# Altium schematic symbol library FenoliteHier.SchLib: 5 symbols
Pins are listed as number, name and electrical type; pins without a type are passive.

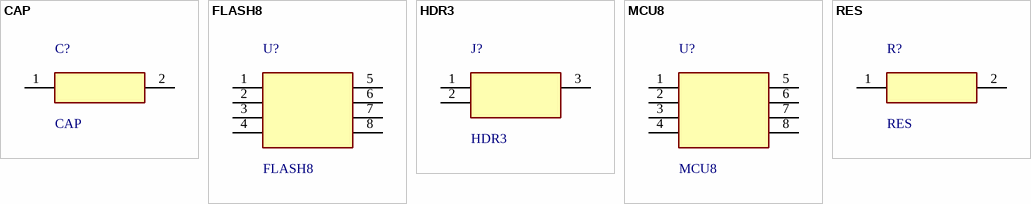
[diagram p0: symbols CAP to RES]

## CAP
designator C?
footprint C0603
pins: 1, 2

## FLASH8
designator U?
footprint SOIC8
pins: 1, 2, 3, 4, 5, 6, 7, 8

## HDR3
designator J?
footprint HDR1X3
pins: 1, 2, 3

## MCU8
designator U?
footprint SOIC8
pins: 1, 2, 3, 4, 5, 6, 7, 8

## RES
designator R?
footprint R0603
pins: 1, 2